# EAGLE library part 71430-0101 (library sjg-vhdci)
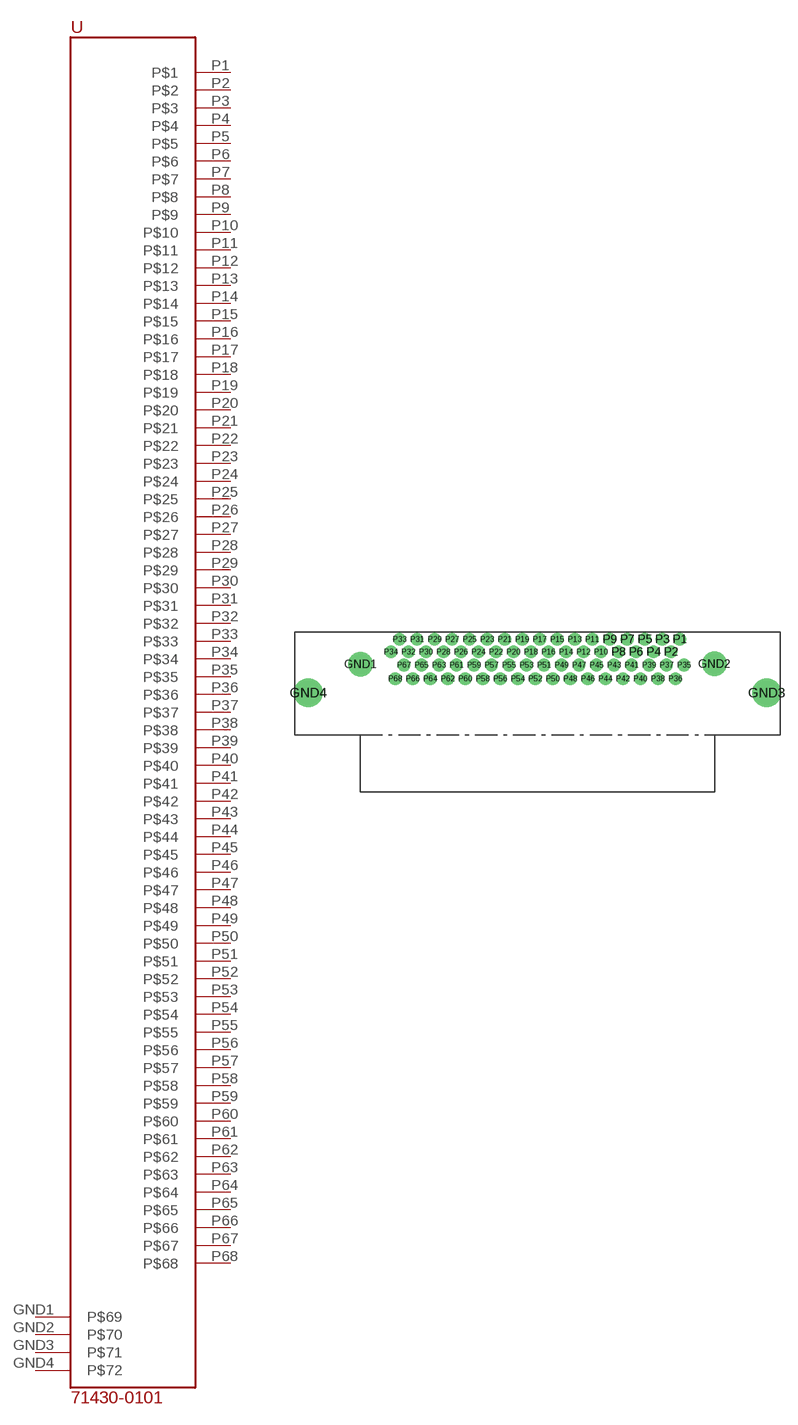
[diagram p1: symbol with the pads of 71430-0101; footprint 71430-0101]

Designator prefix -

## 71430-0101  [71430-0101]
GND1  P$69
GND2  P$70
GND3  P$71
GND4  P$72
P1  P$1
P2  P$2
P3  P$3
P4  P$4
P5  P$5
P6  P$6
P7  P$7
P8  P$8
P9  P$9
P10  P$10
P11  P$11
P12  P$12
P13  P$13
P14  P$14
P15  P$15
P16  P$16
P17  P$17
P18  P$18
P19  P$19
P20  P$20
P21  P$21
P22  P$22
P23  P$23
P24  P$24
P25  P$25
P26  P$26
P27  P$27
P28  P$28
P29  P$29
P30  P$30
P31  P$31
P32  P$32
P33  P$33
P34  P$34
P35  P$35
P36  P$36
P37  P$37
P38  P$38
P39  P$39
P40  P$40
P41  P$41
P42  P$42
P43  P$43
P44  P$44
P45  P$45
P46  P$46
P47  P$47
P48  P$48
P49  P$49
P50  P$50
P51  P$51
P52  P$52
P53  P$53
P54  P$54
P55  P$55
P56  P$56
P57  P$57
P58  P$58
P59  P$59
P60  P$60
P61  P$61
P62  P$62
P63  P$63
P64  P$64
P65  P$65
P66  P$66
P67  P$67
P68  P$68

## Footprint 71430-0101 (pad centres in mm)
drill 1.2 pad 2.25: GND1 -15.46,6.425; GND2 16.89,6.45
drill 1.75: GND3 21.67,3.82; GND4 -20.23,3.82
drill 0.65 pad 1: P1 13.72,8.7; P2 12.92,7.55; P3 12.12,8.7; P4 11.32,7.55; P5 10.52,8.7; P6 9.72,7.55; P7 8.92,8.7; P8 8.12,7.55; P9 7.32,8.7; P10 6.52,7.55; P11 5.72,8.7; P12 4.92,7.55; P13 4.12,8.7; P14 3.32,7.55; P15 2.52,8.7; P16 1.72,7.55; P17 0.92,8.7; P18 0.12,7.55; P19 -0.68,8.7; P20 -1.48,7.55; P21 -2.28,8.7; P22 -3.08,7.55; P23 -3.88,8.7; P24 -4.68,7.55; P25 -5.48,8.7; P26 -6.28,7.55; P27 -7.08,8.7; P28 -7.88,7.55; P29 -8.68,8.7; P30 -9.48,7.55; P31 -10.28,8.7; P32 -11.08,7.55; P33 -11.88,8.7; P34 -12.68,7.55; P35 14.12,6.35; P36 13.32,5.1; P37 12.52,6.35; P38 11.72,5.1; P39 10.92,6.35; P40 10.12,5.1; P41 9.32,6.35; P42 8.52,5.1; P43 7.72,6.35; P44 6.92,5.1; P45 6.12,6.35; P46 5.32,5.1; P47 4.52,6.35; P48 3.72,5.1; P49 2.92,6.35; P50 2.12,5.1; P51 1.32,6.35; P52 0.52,5.1; P53 -0.28,6.35; P54 -1.08,5.1; P55 -1.88,6.35; P56 -2.68,5.1; P57 -3.48,6.35; P58 -4.28,5.1; P59 -5.08,6.35; P60 -5.88,5.1; P61 -6.68,6.35; P62 -7.48,5.1; P63 -8.28,6.35; P64 -9.08,5.1; P65 -9.88,6.35; P66 -10.68,5.1; P67 -11.48,6.35; P68 -12.28,5.1